# Altium footprint library magcontrol.PCBLIB: 54 footprints (part 4 of 4)
Each footprint in its own frame and in the unit in brackets; x right, y up, seen from the top. Pads: shape width x height; smd on the part's side, far side on the other; paste and mask are expansions set on the pad; w line width, h text height; cw(c..) or ccw(c..) is an arc to the next point about the centre after c.
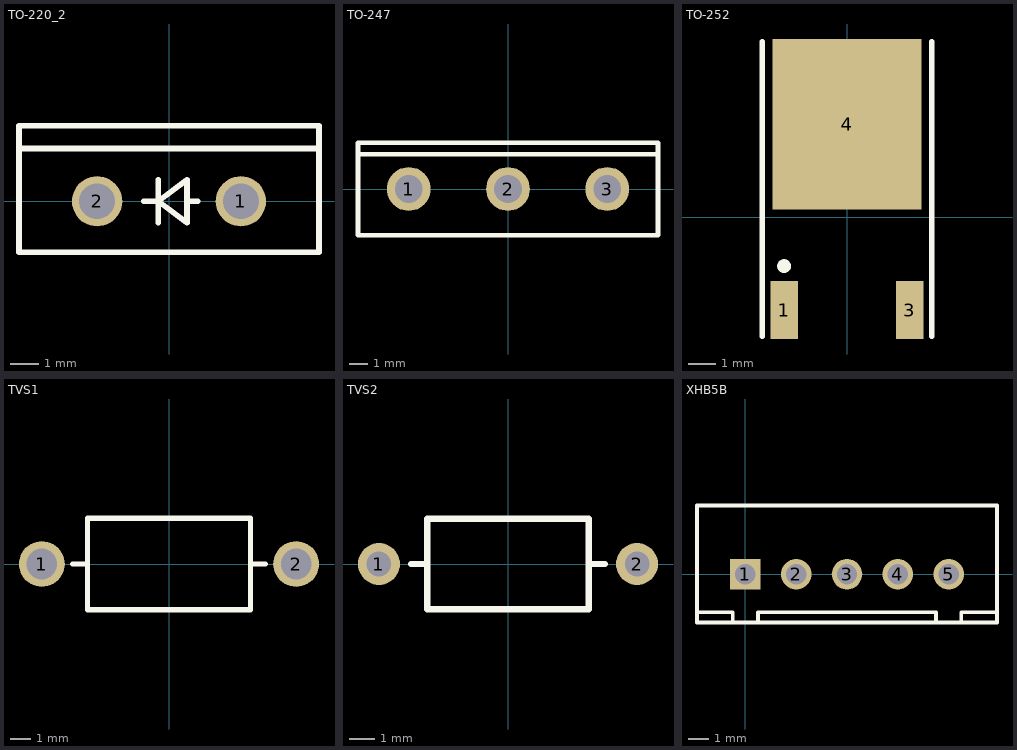
[diagram p3: the footprints below, top view; thin cyan lines are the x and y axes]

## TO-220_2 [mil] "TO, Thru-Hole, Vertical, Heatsink Mounted; 3 In-Line Leads (1 Absent); Pitch 2.54 mm"
height 759.84
pads (2):
  round 70 hole 50: 1(100,0) 2(-100,0)
Top Overlay:
  lines w7.87: -208.66,73.42 208.66,73.42 ; -208.66,-70.87 -208.66,105 208.66,105 208.66,-70.87 -208.66,-70.87
  lines w8: -35,0 -15,0 ; -15,-30 -15,30 ; 25,0 40,0 ; -15,0 25,-30 25,30 -15,0
3D body: height 830.24, standoff -43.78, extent -196.85,-67.17 196.85,110

## TO-247 [mil]
height 200
pads (3):
  round 95 hole 60: 1(-215,0) 2(0,0) 3(215,0)
Top Overlay:
  lines w10: -325,75 325,75 ; -325,-100 325,-100 325,100 -325,100 -325,-100
3D body: height 1043.7, standoff -375.53, extent -311.02,-94 311.03,115.06

## TO-252 [mm] "D-PAK/TO-252-AA; 3 Leads (1 Cropped); Body 10.1 (inc. leads) x 6.6 mm (LxW max)"
height 2.4
pads (3):
  rect 1x2.1 smd: 1(-2.285,-3.375) 3(2.285,-3.375)
  rect 5.4x6.2 smd: 4(0,3.375)
Top Overlay:
  circle w0.25: c-2.285,-1.775 r0.125
  lines w0.2: -3.085,-4.325 -3.085,6.375 ; 3.085,-4.325 3.085,6.375
3D body: height 2.41, standoff 0, extent -3.27,-3.906 3.27,6.033

## TVS1 [mil]
height 200
pads (2):
  round 90 hole 60: 1(-250,0) 2(250,0)
Top Overlay:
  lines w10: -190,0 -160,0 ; 160,0 190,0 ; -160,-90 -160,90 160,90 160,-90 -160,-90
3D body: height 254.33, standoff -86.22, extent -320.86,-104.32 320.87,104.34

## TVS2 [mil]
height 200
pads (2):
  round 65 hole 38: 1(-200,0) 2(200,0)
Top Overlay:
  lines w10: -150,0 -125,0 ; 125,0 150,0 ; -125,-70 -125,70 125,70 125,-70 -125,-70
3D body: height 184.45, standoff -82.48, extent -266.86,-70.16 267,70

## XHB5B [mil] "Connector; Header; 3x2 Position"
height 200
pads (5):
  rect 60x60 hole 40: 1(0,0)
  round 60 hole 40: 2(100,0) 3(200,0) 4(300,0) 5(400,0)
Top Overlay:
  lines w7: -95,-75 -25,-75 -25,-95 ; 25,-95 25,-75 375,-75 375,-95 ; 425,-95 425,-75 495,-75
  lines w7.87: -95,-95 495,-95 495,135 -95,135 -95,-95
3D body: height 280.59, standoff -128.86, extent -93.31,-92.38 493.31,134